# EAGLE library part 1X06-1.27MM (library PonLib)
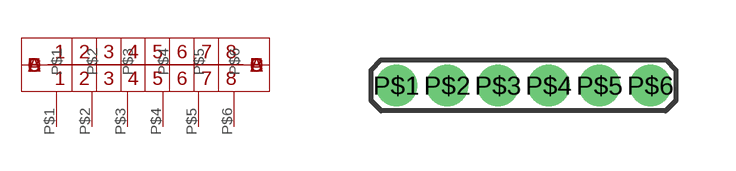
[diagram p10: symbol with the pads of 1X06-1.27MM; footprint 1X06-1.27MM]

Designator prefix -

## 1X06-1.27MM  [1X06-1.27MM]
P$1  P$1
P$2  P$2
P$3  P$3
P$4  P$4
P$5  P$5
P$6  P$6

## Footprint 1X06-1.27MM (pad centres in mm)
drill 0.533 pad 0.889: P$1 -3.175,0; P$2 -1.905,0; P$3 -0.635,0; P$4 0.635,0; P$5 1.905,0; P$6 3.175,0